# Altium schematic symbol library LG290P.SchLib: 1 symbol
Pins are listed as number, name and electrical type; pins without a type are passive.

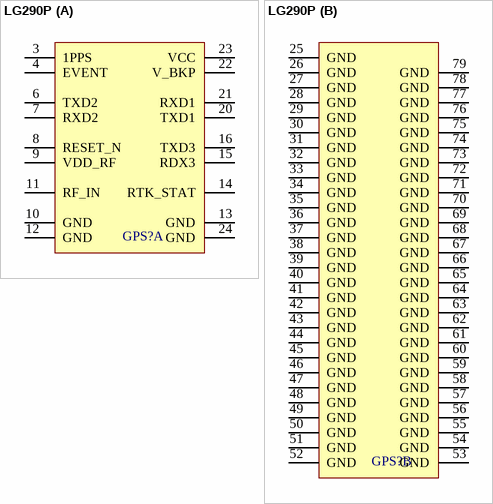
[diagram p0: symbol LG290P]

## LG290P
designator GPS?  (value not drawn)
part A pins: 3 1PPS (power), 4 EVENT (power), 6 TXD2 (power), 7 RXD2 (power), 8 RESET_N (power), 9 VDD_RF (power), 10 GND (power), 11 RF_IN (power), 12 GND (power), 13 GND (power), 14 RTK_STAT (power), 15 RDX3 (power), 16 TXD3 (power), 20 TXD1 (power), 21 RXD1 (power), 22 V_BKP (power), 23 VCC (power), 24 GND (power)
part B pins: 25 GND (power), 26 GND (power), 27 GND (power), 28 GND (power), 29 GND (power), 30 GND (power), 31 GND (power), 32 GND (power), 33 GND (power), 34 GND (power), 35 GND (power), 36 GND (power), 37 GND (power), 38 GND (power), 39 GND (power), 40 GND (power), 41 GND (power), 42 GND (power), 43 GND (power), 44 GND (power), 45 GND (power), 46 GND (power), 47 GND (power), 48 GND (power), 49 GND (power), 50 GND (power), 51 GND (power), 52 GND (power), 53 GND (power), 54 GND (power), 55 GND (power), 56 GND (power), 57 GND (power), 58 GND (power), 59 GND (power), 60 GND (power), 61 GND (power), 62 GND (power), 63 GND (power), 64 GND (power), 65 GND (power), 66 GND (power), 67 GND (power), 68 GND (power), 69 GND (power), 70 GND (power), 71 GND (power), 72 GND (power), 73 GND (power), 74 GND (power), 75 GND (power), 76 GND (power), 77 GND (power), 78 GND (power), 79 GND (power)